# Altium schematic symbol library NHD-0420D3Z-FL-GBW-V3.SchLib: 1 symbol
Pins are listed as number, name and electrical type; pins without a type are passive.

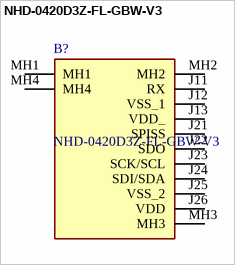
[diagram p0: symbol NHD-0420D3Z-FL-GBW-V3]

## NHD-0420D3Z-FL-GBW-V3
designator B?
LCD Character Display Modules & Accessories 4 x 20 STN-GRAY 98.0 x 60.0; Manufacturer_Name: Newhaven Display; Geometry.Height: 9.34mm; Mouser Part Number: 763-0420D3ZFLGBW-V3; Mouser Price/Stock: https://www.mouser.co.uk/ProductDetail/Newhaven-Display/NHD-0420D3Z-FL-GBW-V3?qs=qFF%252BBcFBHba4i0K1fcOqkw%3D%3D; Manufacturer_Part_Number: NHD-0420D3Z-FL-GBW-V3; Datasheet Link: https://componentsearchengine.com/Datasheets/1/NHD-0420D3Z-FL-GBW-V3.pdf
footprint NHD0420D3ZFLGBWV3
pins: J11 RX, J12 VSS_1, J13 VDD_, J21 SPISS, J22 SDO, J23 SCK/SCL, J24 SDI/SDA, J25 VSS_2, J26 VDD, MH1, MH2, MH3, MH4